# EAGLE library part TTAG_F (library ttag)
CONN HDR 14POS 0.1 GOLD PCB R/A Source: Datasheet <https://s3.amazonaws.com/catalogspreads-pdf/PAGE123 .100 SFH11 SERIES FEMALE HDR ST RA.pdf>
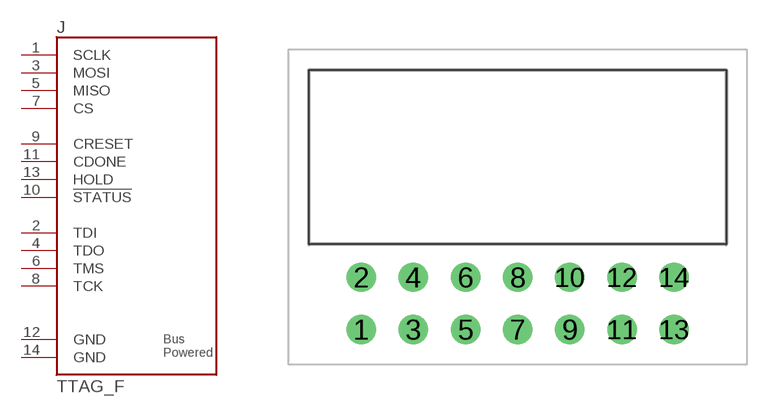
[diagram p3: symbol with the pads of SFH11PBPCD07RABK; footprint SFH11PBPCD07RABK]

Designator prefix J

## TTAG_F (DESCRIPTION: CONN HDR 14POS 0.1 GOLD PCB R/A; HEIGHT: 6mm; MANUFACTURER_NAME: Sullins; MANUFACTURER_PART_NUMBER: SFH11-PBPC-D07-RA-BK)  [SFH11PBPCD07RABK]
1  SCLK
2  TDI
3  MOSI
4  TDO
5  MISO
6  TMS
7  CS
8  TCK
9  CRESET
10  !STATUS!
11  CDONE
12  GND
13  HOLD
14  GND

## Footprint SFH11PBPCD07RABK (pad centres in mm)
SFH11-PBPC-D07-RA-BK-2
drill 0.92 pad 1.431: 1 0,0; 2 0,2.54; 3 2.54,0; 4 2.54,2.54; 5 5.08,0; 6 5.08,2.54; 7 7.62,0; 8 7.62,2.54; 9 10.16,0; 10 10.16,2.54; 11 12.7,0; 12 12.7,2.54; 13 15.24,0; 14 15.24,2.54